# Altium footprint library 0ZRM250FF1A.PcbLib: 1 footprints
Each footprint in its own frame and in the unit in brackets; x right, y up, seen from the top. Pads: shape width x height; smd on the part's side, far side on the other; paste and mask are expansions set on the pad; w line width, h text height; cw(c..) or ccw(c..) is an arc to the next point about the centre after c.
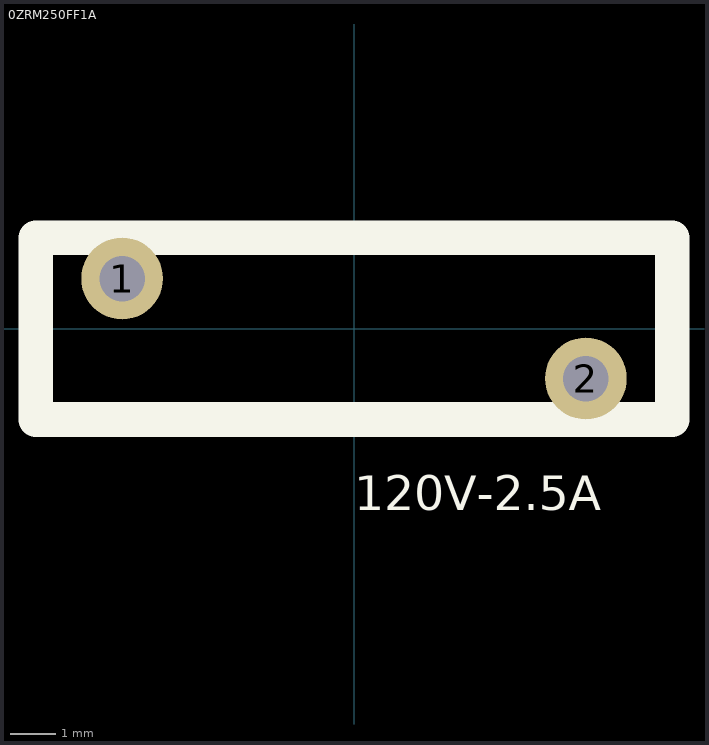
[diagram p0: the footprint, top view; thin cyan lines are the x and y axes]

## 0ZRM250FF1A [mm] "PTC Reset Fuse,120V, 1.25A"
pads (2):
  round 1.8 hole 1: 1(-5.1,1.1) 2(5.1,-1.1)
Top Overlay:
  lines w0.762: -7,-2 -7,0 -7,2 7,2 7,-2 -7,-2
  text "120V-2.5A" at 0,-4 h0.76